# EAGLE library part MSP430FR6989_PZ100 (library msp430)
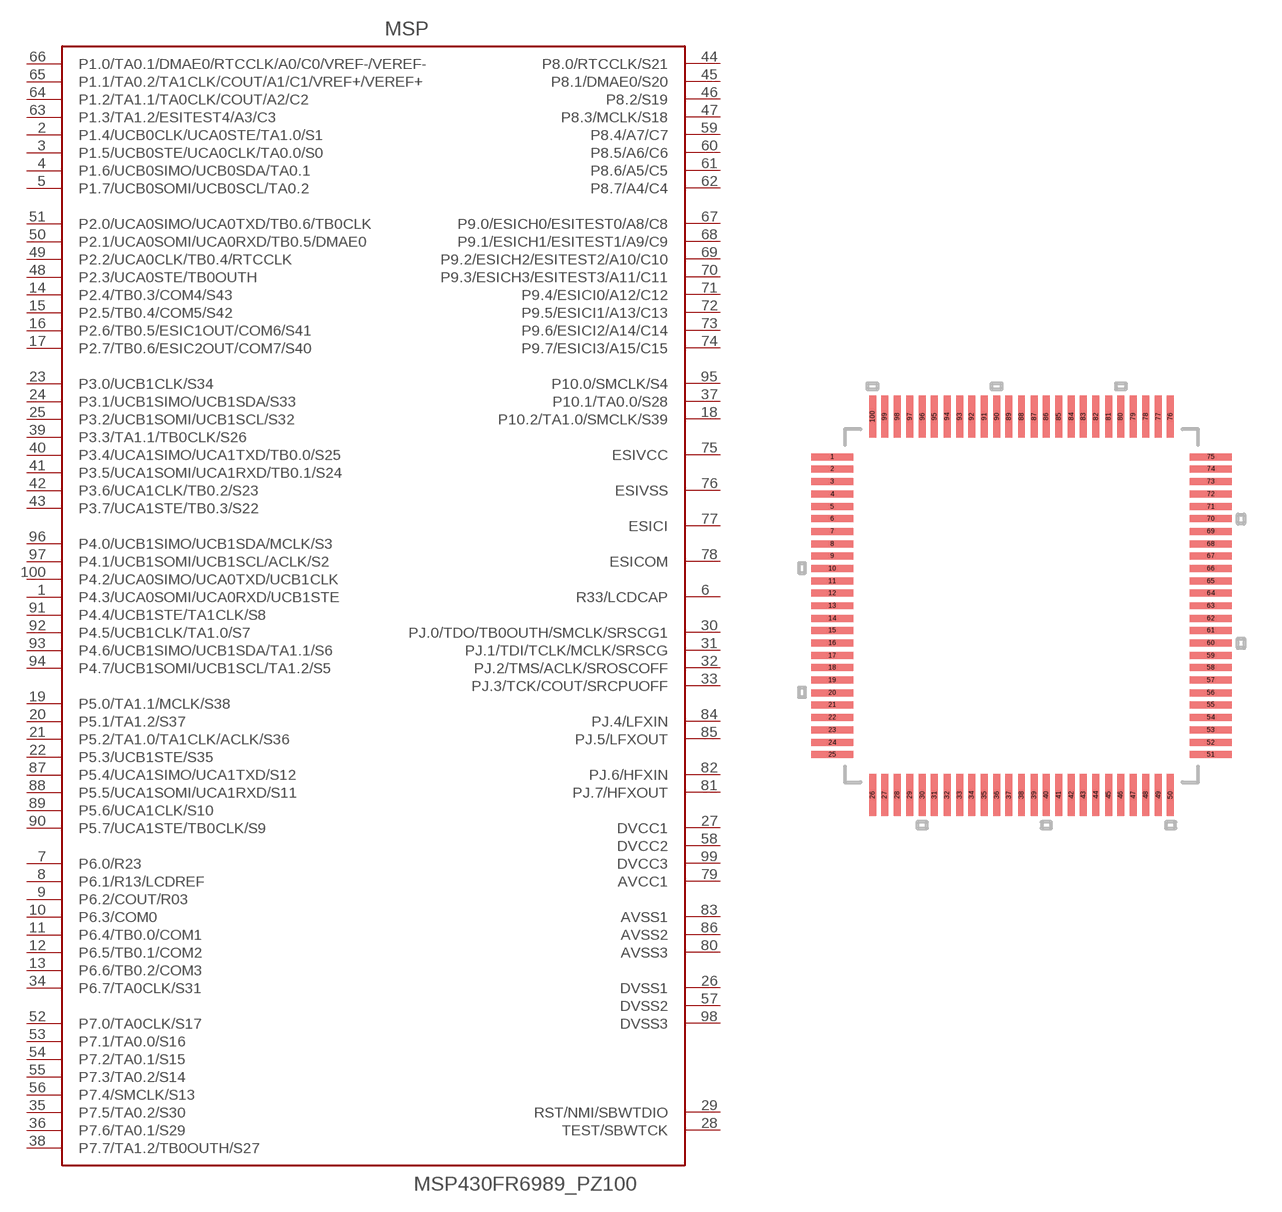
[diagram p5: symbol with the pads of PZ100; footprint PZ100]

Designator prefix MSP

## MSP430FR6989_PZ100  [PZ100]
1  P4.3/UCA0SOMI/UCA0RXD/UCB1STE
2  P1.4/UCB0CLK/UCA0STE/TA1.0/S1
3  P1.5/UCB0STE/UCA0CLK/TA0.0/S0
4  P1.6/UCB0SIMO/UCB0SDA/TA0.1
5  P1.7/UCB0SOMI/UCB0SCL/TA0.2
6  R33/LCDCAP
7  P6.0/R23
8  P6.1/R13/LCDREF
9  P6.2/COUT/R03
10  P6.3/COM0
11  P6.4/TB0.0/COM1
12  P6.5/TB0.1/COM2
13  P6.6/TB0.2/COM3
14  P2.4/TB0.3/COM4/S43
15  P2.5/TB0.4/COM5/S42
16  P2.6/TB0.5/ESIC1OUT/COM6/S41
17  P2.7/TB0.6/ESIC2OUT/COM7/S40
18  P10.2/TA1.0/SMCLK/S39
19  P5.0/TA1.1/MCLK/S38
20  P5.1/TA1.2/S37
21  P5.2/TA1.0/TA1CLK/ACLK/S36
22  P5.3/UCB1STE/S35
23  P3.0/UCB1CLK/S34
24  P3.1/UCB1SIMO/UCB1SDA/S33
25  P3.2/UCB1SOMI/UCB1SCL/S32
26  DVSS1
27  DVCC1
28  TEST/SBWTCK
29  RST/NMI/SBWTDIO
30  PJ.0/TDO/TB0OUTH/SMCLK/SRSCG1
31  PJ.1/TDI/TCLK/MCLK/SRSCG
32  PJ.2/TMS/ACLK/SROSCOFF
33  PJ.3/TCK/COUT/SRCPUOFF
34  P6.7/TA0CLK/S31
35  P7.5/TA0.2/S30
36  P7.6/TA0.1/S29
37  P10.1/TA0.0/S28
38  P7.7/TA1.2/TB0OUTH/S27
39  P3.3/TA1.1/TB0CLK/S26
40  P3.4/UCA1SIMO/UCA1TXD/TB0.0/S25
41  P3.5/UCA1SOMI/UCA1RXD/TB0.1/S24
42  P3.6/UCA1CLK/TB0.2/S23
43  P3.7/UCA1STE/TB0.3/S22
44  P8.0/RTCCLK/S21
45  P8.1/DMAE0/S20
46  P8.2/S19
47  P8.3/MCLK/S18
48  P2.3/UCA0STE/TB0OUTH
49  P2.2/UCA0CLK/TB0.4/RTCCLK
50  P2.1/UCA0SOMI/UCA0RXD/TB0.5/DMAE0
51  P2.0/UCA0SIMO/UCA0TXD/TB0.6/TB0CLK
52  P7.0/TA0CLK/S17
53  P7.1/TA0.0/S16
54  P7.2/TA0.1/S15
55  P7.3/TA0.2/S14
56  P7.4/SMCLK/S13
57  DVSS2
58  DVCC2
59  P8.4/A7/C7
60  P8.5/A6/C6
61  P8.6/A5/C5
62  P8.7/A4/C4
63  P1.3/TA1.2/ESITEST4/A3/C3
64  P1.2/TA1.1/TA0CLK/COUT/A2/C2
65  P1.1/TA0.2/TA1CLK/COUT/A1/C1/VREF+/VEREF+
66  P1.0/TA0.1/DMAE0/RTCCLK/A0/C0/VREF-/VEREF-
67  P9.0/ESICH0/ESITEST0/A8/C8
68  P9.1/ESICH1/ESITEST1/A9/C9
69  P9.2/ESICH2/ESITEST2/A10/C10
70  P9.3/ESICH3/ESITEST3/A11/C11
71  P9.4/ESICI0/A12/C12
72  P9.5/ESICI1/A13/C13
73  P9.6/ESICI2/A14/C14
74  P9.7/ESICI3/A15/C15
75  ESIVCC
76  ESIVSS
77  ESICI
78  ESICOM
79  AVCC1
80  AVSS3
81  PJ.7/HFXOUT
82  PJ.6/HFXIN
83  AVSS1
84  PJ.4/LFXIN
85  PJ.5/LFXOUT
86  AVSS2
87  P5.4/UCA1SIMO/UCA1TXD/S12
88  P5.5/UCA1SOMI/UCA1RXD/S11
89  P5.6/UCA1CLK/S10
90  P5.7/UCA1STE/TB0CLK/S9
91  P4.4/UCB1STE/TA1CLK/S8
92  P4.5/UCB1CLK/TA1.0/S7
93  P4.6/UCB1SIMO/UCB1SDA/TA1.1/S6
94  P4.7/UCB1SOMI/UCB1SCL/TA1.2/S5
95  P10.0/SMCLK/S4
96  P4.0/UCB1SIMO/UCB1SDA/MCLK/S3
97  P4.1/UCB1SOMI/UCB1SCL/ACLK/S2
98  DVSS3
99  DVCC3
100  P4.2/UCA0SIMO/UCA0TXD/UCB1CLK

## Footprint PZ100 (pad centres in mm)
smd 1.676 x 0.279: 1 -7.62,5.994; 2 -7.62,5.512; 3 -7.62,5.004; 4 -7.62,4.496; 5 -7.62,3.988; 6 -7.62,3.505; 7 -7.62,2.997; 8 -7.62,2.489; 9 -7.62,2.007; 10 -7.62,1.499; 11 -7.62,0.991; 12 -7.62,0.508; 13 -7.62,0; 14 -7.62,-0.508; 15 -7.62,-0.991; 16 -7.62,-1.499; 17 -7.62,-2.007; 18 -7.62,-2.489; 19 -7.62,-2.997; 20 -7.62,-3.505; 21 -7.62,-3.988; 22 -7.62,-4.496; 23 -7.62,-5.004; 24 -7.62,-5.512; 25 -7.62,-5.994; 51 7.62,-5.994; 52 7.62,-5.512; 53 7.62,-5.004; 54 7.62,-4.496; 55 7.62,-3.988; 56 7.62,-3.505; 57 7.62,-2.997; 58 7.62,-2.489; 59 7.62,-2.007; 60 7.62,-1.499; 61 7.62,-0.991; 62 7.62,-0.508; 63 7.62,0; 64 7.62,0.508; 65 7.62,0.991; 66 7.62,1.499; 67 7.62,2.007; 68 7.62,2.489; 69 7.62,2.997; 70 7.62,3.505; 71 7.62,3.988; 72 7.62,4.496; 73 7.62,5.004; 74 7.62,5.512; 75 7.62,5.994
smd 0.279 x 1.676: 26 -5.994,-7.62; 27 -5.512,-7.62; 28 -5.004,-7.62; 29 -4.496,-7.62; 30 -3.988,-7.62; 31 -3.505,-7.62; 32 -2.997,-7.62; 33 -2.489,-7.62; 34 -2.007,-7.62; 35 -1.499,-7.62; 36 -0.991,-7.62; 37 -0.508,-7.62; 38 0,-7.62; 39 0.508,-7.62; 40 0.991,-7.62; 41 1.499,-7.62; 42 2.007,-7.62; 43 2.489,-7.62; 44 2.997,-7.62; 45 3.505,-7.62; 46 3.988,-7.62; 47 4.496,-7.62; 48 5.004,-7.62; 49 5.512,-7.62; 50 5.994,-7.62; 76 5.994,7.62; 77 5.512,7.62; 78 5.004,7.62; 79 4.496,7.62; 80 3.988,7.62; 81 3.505,7.62; 82 2.997,7.62; 83 2.489,7.62; 84 2.007,7.62; 85 1.499,7.62; 86 0.991,7.62; 87 0.508,7.62; 88 0,7.62; 89 -0.508,7.62; 90 -0.991,7.62; 91 -1.499,7.62; 92 -2.007,7.62; 93 -2.489,7.62; 94 -2.997,7.62; 95 -3.505,7.62; 96 -3.988,7.62; 97 -4.496,7.62; 98 -5.004,7.62; 99 -5.512,7.62; 100 -5.994,7.62